# EAGLE library part YD6283 (library Audio-Power-amlifier V.2.0)
YD6283 is an audio power IC with built-in two channels developed for portable radio cassette tape recorder. Because of the parts reduction and SIP (Single In line Package), space merit is remarkable. Thermal shut down protection circuit is built in.
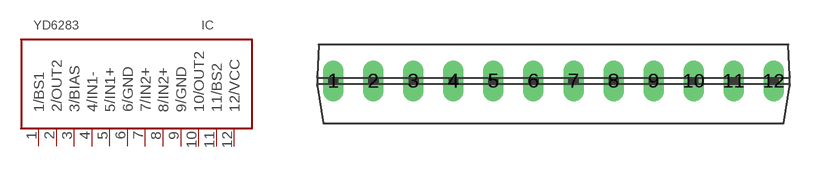
[diagram p179: symbol with the pads of HSIP012-P-0000B-2,54; footprint HSIP012-P-0000B-2,54]

Designator prefix IC

## YD6283  [HSIP012-P-0000B-2,54]
1  1/BS1  in
2  2/OUT2  out
3  3/BIAS  out
4  4/IN1-  in
5  5/IN1+  in
6  6/GND  pwr
7  7/IN2+  in
8  8/IN2+  in
9  9/GND  pwr
10  10/OUT2  out
11  11/BS2  out
12  12/VCC  pwr

## Footprint HSIP012-P-0000B-2,54 (pad centres in mm)
drill 0.8 long: 1 -13.97,0; 2 -11.43,0; 3 -8.89,0; 4 -6.35,0; 5 -3.81,0; 6 -1.27,0; 7 1.27,0; 8 3.81,0; 9 6.35,0; 10 8.89,0; 11 11.43,0; 12 13.97,0